# Altium footprint library 653106124022.PcbLib: 1 footprints
Each footprint in its own frame and in the unit in brackets; x right, y up, seen from the top. Pads: shape width x height; smd on the part's side, far side on the other; paste and mask are expansions set on the pad; w line width, h text height; cw(c..) or ccw(c..) is an arc to the next point about the centre after c.
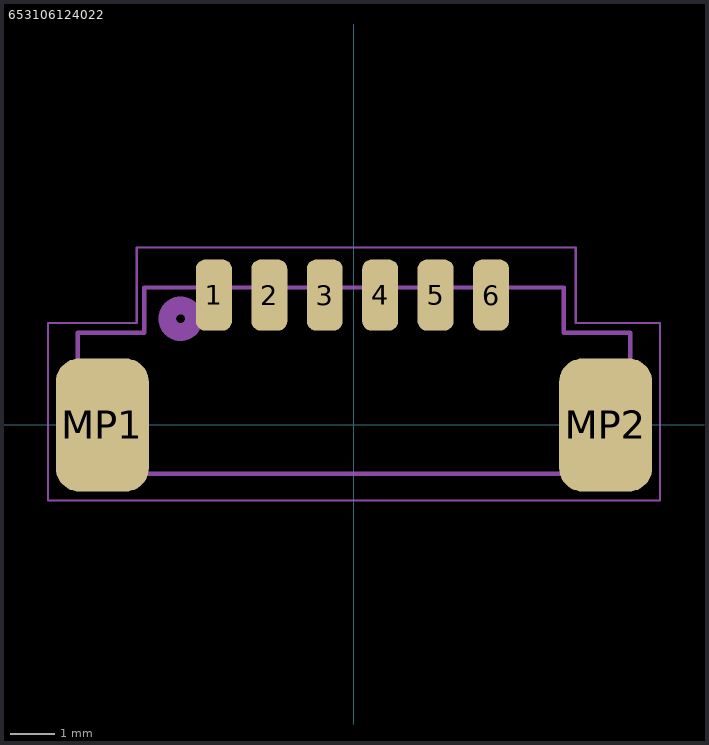
[diagram p0: the footprint, top view; thin cyan lines are the x and y axes]

## 653106124022 [mm]
pads (8):
  rrect50% 0.81x1.6 smd: 1(-3.159,2.929) 2(-1.909,2.929) 3(-0.659,2.929) 4(0.591,2.929) 5(1.841,2.929) 6(3.091,2.929)
  rrect50% 2.1x3 smd: MP1(-5.675,0) MP2(5.675,0)
Top Assembly:
  circle w0.4: c-3.91,2.397 r0.3
  lines w0.1: -6.225,-0.78 -6.225,2.08 -4.725,2.08 -4.725,3.1 4.725,3.1 4.725,2.08 6.225,2.08 6.225,-0.78 ; -6.205,-0.8 -4.725,-0.8 -4.725,-1.1 4.725,-1.1 4.725,-0.8 6.205,-0.8
  text "'.Designator'" at -4.2,0.4 h0.5
Top Courtyard:
  lines w0.05: -6.9,-1.7 6.9,-1.7 6.9,2.3 5,2.3 5,3.9 5,4 -4.9,4 -4.9,2.3 -6.9,2.3 -6.9,-1.7
3D body "653106124022 (rev1).stp": height 4.75, standoff 0, extent -6.225,-1.1 6.225,3.105